# EAGLE library part EP3C40-PQ240 (library dan-altera)
Altera Cyclone III EP3C40-PQ240 The Cyclone® III FPGA family offered by Altera is a cost-optimized, memory-rich FPGA family. Cyclone III FPGAs are built on TSMC's 65-nm low-power (LP) process technology with additional silicon optimizations and software features to minimize power consumption. With this third generation in the Cyclone series, Altera broadens the number of high volume, cost-sensitive applications that can benefit from FPGAs.
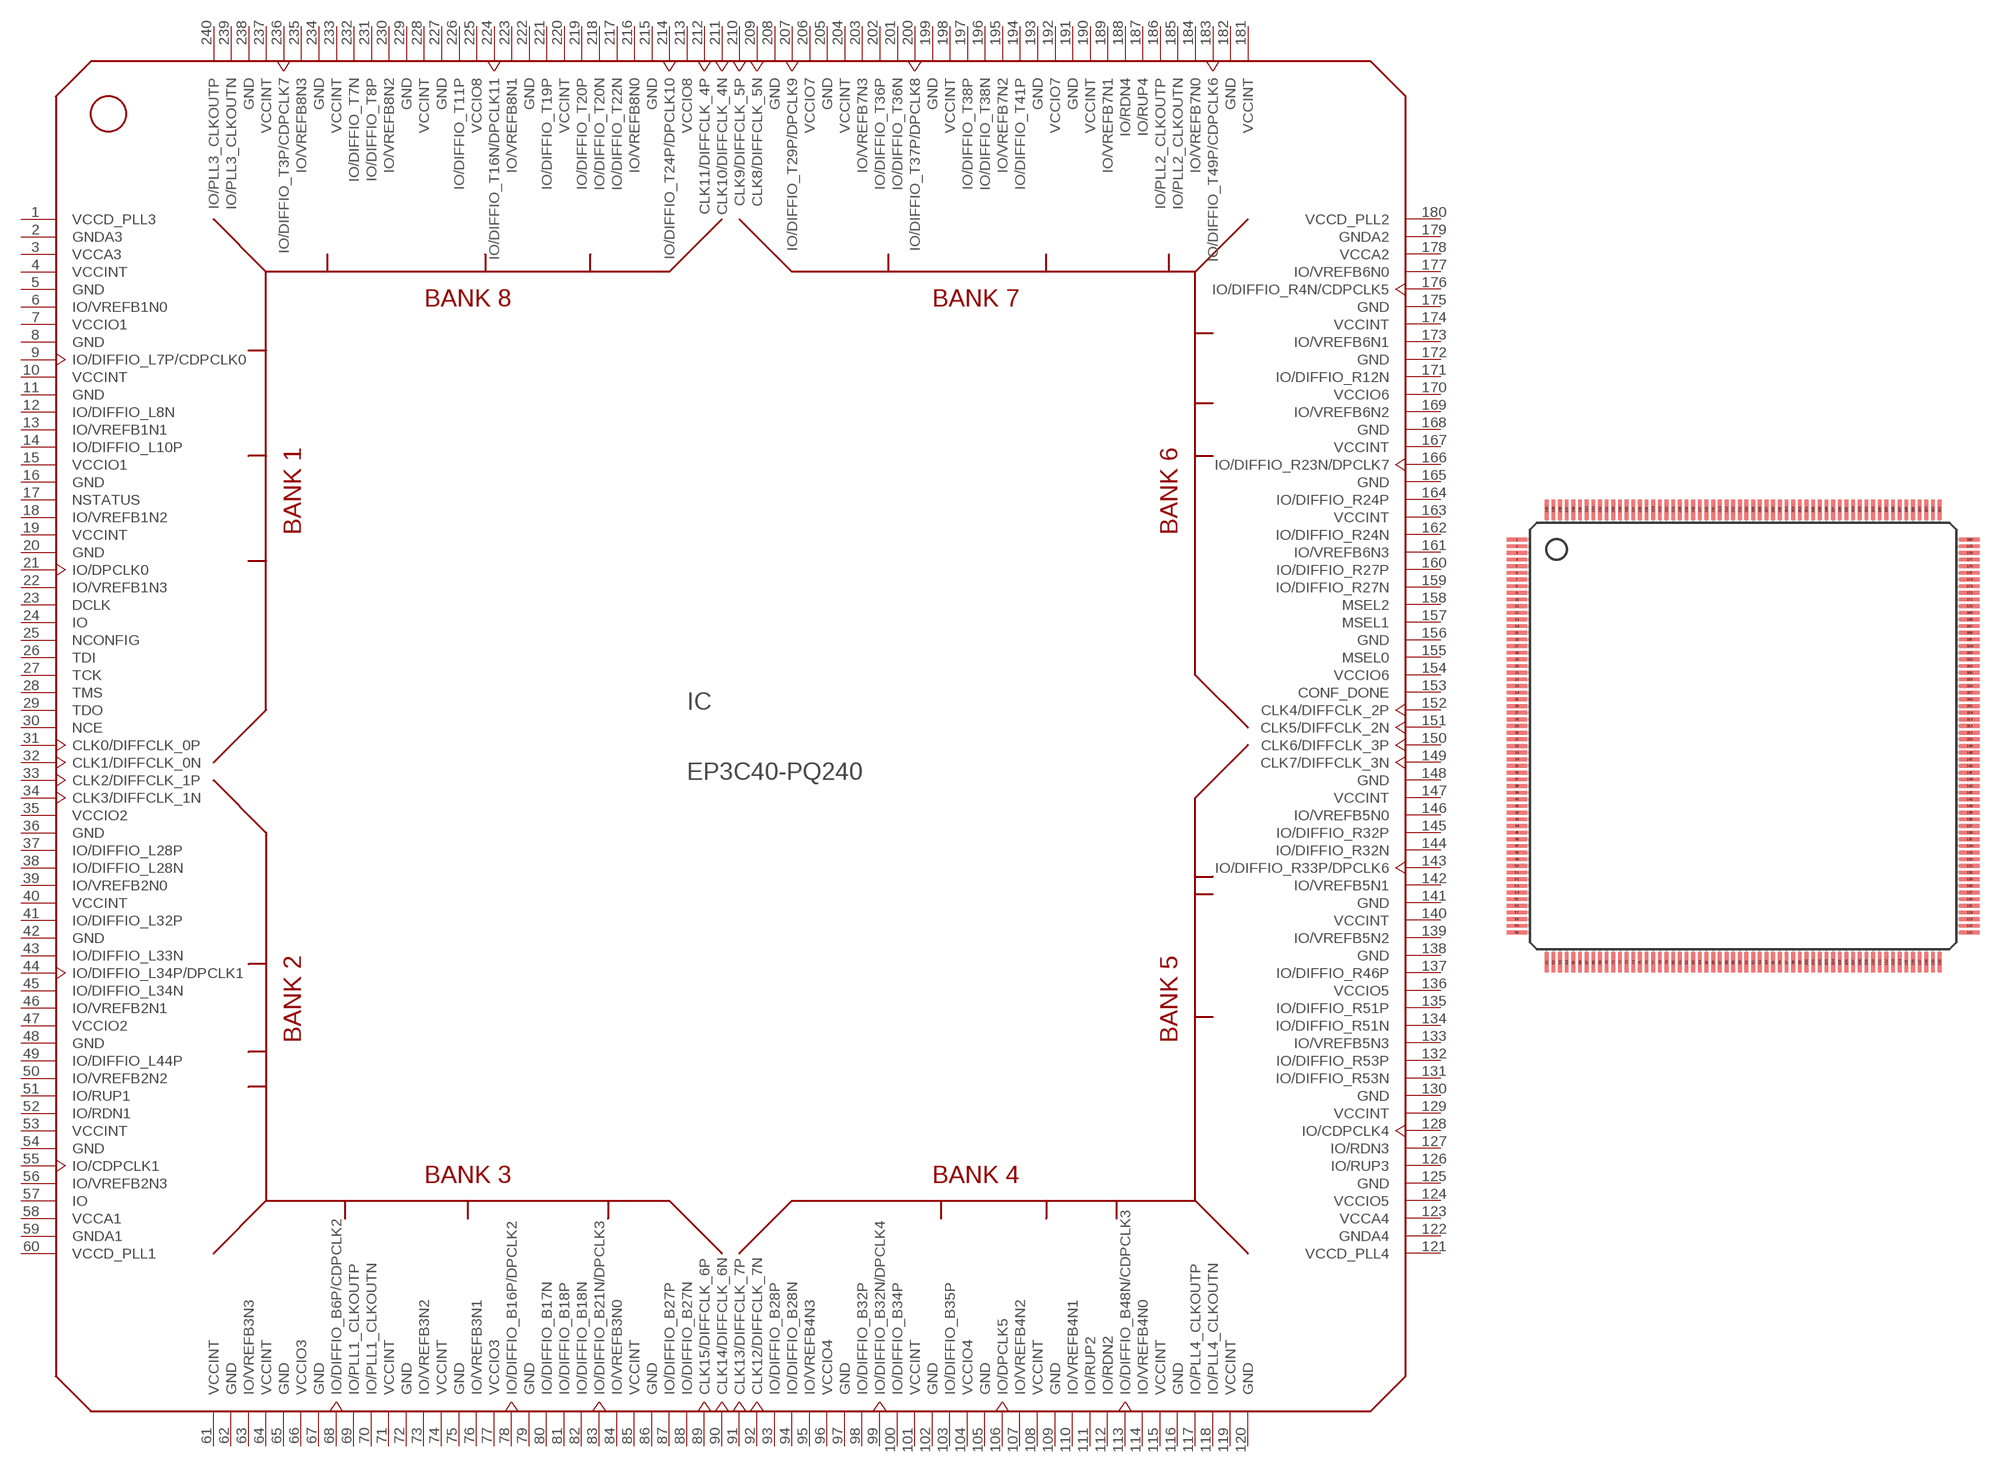
[diagram p1: symbol with the pads of PQ240; footprint PQ240]

Designator prefix IC

## EP3C40-PQ240  [PQ240]
1  VCCD_PLL3  pwr
2  GNDA3  pwr
3  VCCA3  pwr
4  VCCINT  pwr
5  GND  pwr
6  IO/VREFB1N0
7  VCCIO1  pwr
8  GND  pwr
9  IO/DIFFIO_L7P/CDPCLK0
10  VCCINT  pwr
11  GND  pwr
12  IO/DIFFIO_L8N
13  IO/VREFB1N1
14  IO/DIFFIO_L10P
15  VCCIO1  pwr
16  GND  pwr
17  NSTATUS  oc
18  IO/VREFB1N2
19  VCCINT  pwr
20  GND  pwr
21  IO/DPCLK0
22  IO/VREFB1N3
23  DCLK
24  IO
25  NCONFIG  in
26  TDI  in
27  TCK  in
28  TMS  in
29  TDO  out
30  NCE  in
31  CLK0/DIFFCLK_0P  in
32  CLK1/DIFFCLK_0N  in
33  CLK2/DIFFCLK_1P  in
34  CLK3/DIFFCLK_1N  in
35  VCCIO2  pwr
36  GND  pwr
37  IO/DIFFIO_L28P
38  IO/DIFFIO_L28N
39  IO/VREFB2N0
40  VCCINT  pwr
41  IO/DIFFIO_L32P
42  GND  pwr
43  IO/DIFFIO_L33N
44  IO/DIFFIO_L34P/DPCLK1
45  IO/DIFFIO_L34N
46  IO/VREFB2N1
47  VCCIO2  pwr
48  GND  pwr
49  IO/DIFFIO_L44P
50  IO/VREFB2N2
51  IO/RUP1
52  IO/RDN1
53  VCCINT  pwr
54  GND  pwr
55  IO/CDPCLK1
56  IO/VREFB2N3
57  IO
58  VCCA1  pwr
59  GNDA1  pwr
60  VCCD_PLL1  pwr
61  VCCINT  pwr
62  GND  pwr
63  IO/VREFB3N3
64  VCCINT  pwr
65  GND  pwr
66  VCCIO3  pwr
67  GND  pwr
68  IO/DIFFIO_B6P/CDPCLK2
69  IO/PLL1_CLKOUTP
70  IO/PLL1_CLKOUTN
71  VCCINT  pwr
72  GND  pwr
73  IO/VREFB3N2
74  VCCINT  pwr
75  GND  pwr
76  IO/VREFB3N1
77  VCCIO3  pwr
78  IO/DIFFIO_B16P/DPCLK2
79  GND  pwr
80  IO/DIFFIO_B17N
81  IO/DIFFIO_B18P
82  IO/DIFFIO_B18N
83  IO/DIFFIO_B21N/DPCLK3
84  IO/VREFB3N0
85  VCCINT  pwr
86  GND  pwr
87  IO/DIFFIO_B27P
88  IO/DIFFIO_B27N
89  CLK15/DIFFCLK_6P  in
90  CLK14/DIFFCLK_6N  in
91  CLK13/DIFFCLK_7P  in
92  CLK12/DIFFCLK_7N  in
93  IO/DIFFIO_B28P
94  IO/DIFFIO_B28N
95  IO/VREFB4N3
96  VCCIO4  pwr
97  GND  pwr
98  IO/DIFFIO_B32P
99  IO/DIFFIO_B32N/DPCLK4
100  IO/DIFFIO_B34P
101  VCCINT  pwr
102  GND  pwr
103  IO/DIFFIO_B35P
104  VCCIO4  pwr
105  GND  pwr
106  IO/DPCLK5
107  IO/VREFB4N2
108  VCCINT  pwr
109  GND  pwr
110  IO/VREFB4N1
111  IO/RUP2
112  IO/RDN2
113  IO/DIFFIO_B48N/CDPCLK3
114  IO/VREFB4N0
115  VCCINT  pwr
116  GND  pwr
117  IO/PLL4_CLKOUTP
118  IO/PLL4_CLKOUTN
119  VCCINT  pwr
120  GND  pwr
121  VCCD_PLL4  pwr
122  GNDA4  pwr
123  VCCA4  pwr
124  VCCIO5  pwr
125  GND  pwr
126  IO/RUP3
127  IO/RDN3
128  IO/CDPCLK4  pwr
129  VCCINT  pwr
130  GND  pwr
131  IO/DIFFIO_R53N
132  IO/DIFFIO_R53P
133  IO/VREFB5N3
134  IO/DIFFIO_R51N
135  IO/DIFFIO_R51P
136  VCCIO5  pwr
137  IO/DIFFIO_R46P
138  GND  pwr
139  IO/VREFB5N2
140  VCCINT  pwr
141  GND  pwr
142  IO/VREFB5N1
143  IO/DIFFIO_R33P/DPCLK6
144  IO/DIFFIO_R32N
145  IO/DIFFIO_R32P
146  IO/VREFB5N0
147  VCCINT  pwr
148  GND  pwr
149  CLK7/DIFFCLK_3N  in
150  CLK6/DIFFCLK_3P  in
151  CLK5/DIFFCLK_2N  in
152  CLK4/DIFFCLK_2P  in
153  CONF_DONE  oc
154  VCCIO6  pwr
155  MSEL0  in
156  GND  pwr
157  MSEL1  in
158  MSEL2  in
159  IO/DIFFIO_R27N
160  IO/DIFFIO_R27P
161  IO/VREFB6N3
162  IO/DIFFIO_R24N
163  VCCINT  pwr
164  IO/DIFFIO_R24P
165  GND  pwr
166  IO/DIFFIO_R23N/DPCLK7
167  VCCINT  pwr
168  GND  pwr
169  IO/VREFB6N2
170  VCCIO6  pwr
171  IO/DIFFIO_R12N
172  GND  pwr
173  IO/VREFB6N1
174  VCCINT  pwr
175  GND  pwr
176  IO/DIFFIO_R4N/CDPCLK5
177  IO/VREFB6N0
178  VCCA2  pwr
179  GNDA2  pwr
180  VCCD_PLL2  pwr
181  VCCINT  pwr
182  GND  pwr
183  IO/DIFFIO_T49P/CDPCLK6
184  IO/VREFB7N0
185  IO/PLL2_CLKOUTN
186  IO/PLL2_CLKOUTP
187  IO/RUP4
188  IO/RDN4
189  IO/VREFB7N1
190  VCCINT  pwr
191  GND  pwr
192  VCCIO7  pwr
193  GND  pwr
194  IO/DIFFIO_T41P
195  IO/VREFB7N2
196  IO/DIFFIO_T38N
197  IO/DIFFIO_T38P
198  VCCINT  pwr
199  GND  pwr
200  IO/DIFFIO_T37P/DPCLK8
201  IO/DIFFIO_T36N
202  IO/DIFFIO_T36P
203  IO/VREFB7N3
204  VCCINT  pwr
205  GND  pwr
206  VCCIO7  pwr
207  IO/DIFFIO_T29P/DPCLK9
208  GND  pwr
209  CLK8/DIFFCLK_5N  in
210  CLK9/DIFFCLK_5P  in
211  CLK10/DIFFCLK_4N  in
212  CLK11/DIFFCLK_4P  in
213  VCCIO8  pwr
214  IO/DIFFIO_T24P/DPCLK10
215  GND  pwr
216  IO/VREFB8N0
217  IO/DIFFIO_T22N
218  IO/DIFFIO_T20N
219  IO/DIFFIO_T20P
220  VCCINT  pwr
221  IO/DIFFIO_T19P
222  GND  pwr
223  IO/VREFB8N1
224  IO/DIFFIO_T16N/DPCLK11
225  VCCIO8  pwr
226  IO/DIFFIO_T11P
227  GND  pwr
228  VCCINT  pwr
229  GND  pwr
230  IO/VREFB8N2
231  IO/DIFFIO_T8P
232  IO/DIFFIO_T7N
233  VCCINT  pwr
234  GND  pwr
235  IO/VREFB8N3
236  IO/DIFFIO_T3P/CDPCLK7
237  VCCINT  pwr
238  GND  pwr
239  IO/PLL3_CLKOUTN
240  IO/PLL3_CLKOUTP

## Footprint PQ240 (pad centres in mm)
QFP240 shrink quad flat pack, square
smd 1.5 x 0.28: 1 -17,14.75; 2 -17,14.25; 3 -17,13.75; 4 -17,13.25; 5 -17,12.75; 6 -17,12.25; 7 -17,11.75; 8 -17,11.25; 9 -17,10.75; 10 -17,10.25; 11 -17,9.75; 12 -17,9.25; 13 -17,8.75; 14 -17,8.25; 15 -17,7.75; 16 -17,7.25; 17 -17,6.75; 18 -17,6.25; 19 -17,5.75; 20 -17,5.25; 21 -17,4.75; 22 -17,4.25; 23 -17,3.75; 24 -17,3.25; 25 -17,2.75; 26 -17,2.25; 27 -17,1.75; 28 -17,1.25; 29 -17,0.75; 30 -17,0.25; 31 -17,-0.25; 32 -17,-0.75; 33 -17,-1.25; 34 -17,-1.75; 35 -17,-2.25; 36 -17,-2.75; 37 -17,-3.25; 38 -17,-3.75; 39 -17,-4.25; 40 -17,-4.75; 41 -17,-5.25; 42 -17,-5.75; 43 -17,-6.25; 44 -17,-6.75; 45 -17,-7.25; 46 -17,-7.75; 47 -17,-8.25; 48 -17,-8.75; 49 -17,-9.25; 50 -17,-9.75; 51 -17,-10.25; 52 -17,-10.75; 53 -17,-11.25; 54 -17,-11.75; 55 -17,-12.25; 56 -17,-12.75; 57 -17,-13.25; 58 -17,-13.75; 59 -17,-14.25; 60 -17,-14.75; 121 17,-14.75; 122 17,-14.25; 123 17,-13.75; 124 17,-13.25; 125 17,-12.75; 126 17,-12.25; 127 17,-11.75; 128 17,-11.25; 129 17,-10.75; 130 17,-10.25; 131 17,-9.75; 132 17,-9.25; 133 17,-8.75; 134 17,-8.25; 135 17,-7.75; 136 17,-7.25; 137 17,-6.75; 138 17,-6.25; 139 17,-5.75; 140 17,-5.25; 141 17,-4.75; 142 17,-4.25; 143 17,-3.75; 144 17,-3.25; 145 17,-2.75; 146 17,-2.25; 147 17,-1.75; 148 17,-1.25; 149 17,-0.75; 150 17,-0.25; 151 17,0.25; 152 17,0.75; 153 17,1.25; 154 17,1.75; 155 17,2.25; 156 17,2.75; 157 17,3.25; 158 17,3.75; 159 17,4.25; 160 17,4.75; 161 17,5.25; 162 17,5.75; 163 17,6.25; 164 17,6.75; 165 17,7.25; 166 17,7.75; 167 17,8.25; 168 17,8.75; 169 17,9.25; 170 17,9.75; 171 17,10.25; 172 17,10.75; 173 17,11.25; 174 17,11.75; 175 17,12.25; 176 17,12.75; 177 17,13.25; 178 17,13.75; 179 17,14.25; 180 17,14.75
smd 0.28 x 1.5: 61 -14.75,-17; 62 -14.25,-17; 63 -13.75,-17; 64 -13.25,-17; 65 -12.75,-17; 66 -12.25,-17; 67 -11.75,-17; 68 -11.25,-17; 69 -10.75,-17; 70 -10.25,-17; 71 -9.75,-17; 72 -9.25,-17; 73 -8.75,-17; 74 -8.25,-17; 75 -7.75,-17; 76 -7.25,-17; 77 -6.75,-17; 78 -6.25,-17; 79 -5.75,-17; 80 -5.25,-17; 81 -4.75,-17; 82 -4.25,-17; 83 -3.75,-17; 84 -3.25,-17; 85 -2.75,-17; 86 -2.25,-17; 87 -1.75,-17; 88 -1.25,-17; 89 -0.75,-17; 90 -0.25,-17; 91 0.25,-17; 92 0.75,-17; 93 1.25,-17; 94 1.75,-17; 95 2.25,-17; 96 2.75,-17; 97 3.25,-17; 98 3.75,-17; 99 4.25,-17; 100 4.75,-17; 101 5.25,-17; 102 5.75,-17; 103 6.25,-17; 104 6.75,-17; 105 7.25,-17; 106 7.75,-17; 107 8.25,-17; 108 8.75,-17; 109 9.25,-17; 110 9.75,-17; 111 10.25,-17; 112 10.75,-17; 113 11.25,-17; 114 11.75,-17; 115 12.25,-17; 116 12.75,-17; 117 13.25,-17; 118 13.75,-17; 119 14.25,-17; 120 14.75,-17; 181 14.75,17; 182 14.25,17; 183 13.75,17; 184 13.25,17; 185 12.75,17; 186 12.25,17; 187 11.75,17; 188 11.25,17; 189 10.75,17; 190 10.25,17; 191 9.75,17; 192 9.25,17; 193 8.75,17; 194 8.25,17; 195 7.75,17; 196 7.25,17; 197 6.75,17; 198 6.25,17; 199 5.75,17; 200 5.25,17; 201 4.75,17; 202 4.25,17; 203 3.75,17; 204 3.25,17; 205 2.75,17; 206 2.25,17; 207 1.75,17; 208 1.25,17; 209 0.75,17; 210 0.25,17; 211 -0.25,17; 212 -0.75,17; 213 -1.25,17; 214 -1.75,17; 215 -2.25,17; 216 -2.75,17; 217 -3.25,17; 218 -3.75,17; 219 -4.25,17; 220 -4.75,17; 221 -5.25,17; 222 -5.75,17; 223 -6.25,17; 224 -6.75,17; 225 -7.25,17; 226 -7.75,17; 227 -8.25,17; 228 -8.75,17; 229 -9.25,17; 230 -9.75,17; 231 -10.25,17; 232 -10.75,17; 233 -11.25,17; 234 -11.75,17; 235 -12.25,17; 236 -12.75,17; 237 -13.25,17; 238 -13.75,17; 239 -14.25,17; 240 -14.75,17